# Altium footprint library Low Power Bluetooth PMOD RevA.PcbLib: 14 footprints
Each footprint in its own frame and in the unit in brackets; x right, y up, seen from the top. Pads: shape width x height; smd on the part's side, far side on the other; paste and mask are expansions set on the pad; w line width, h text height; cw(c..) or ccw(c..) is an arc to the next point about the centre after c.
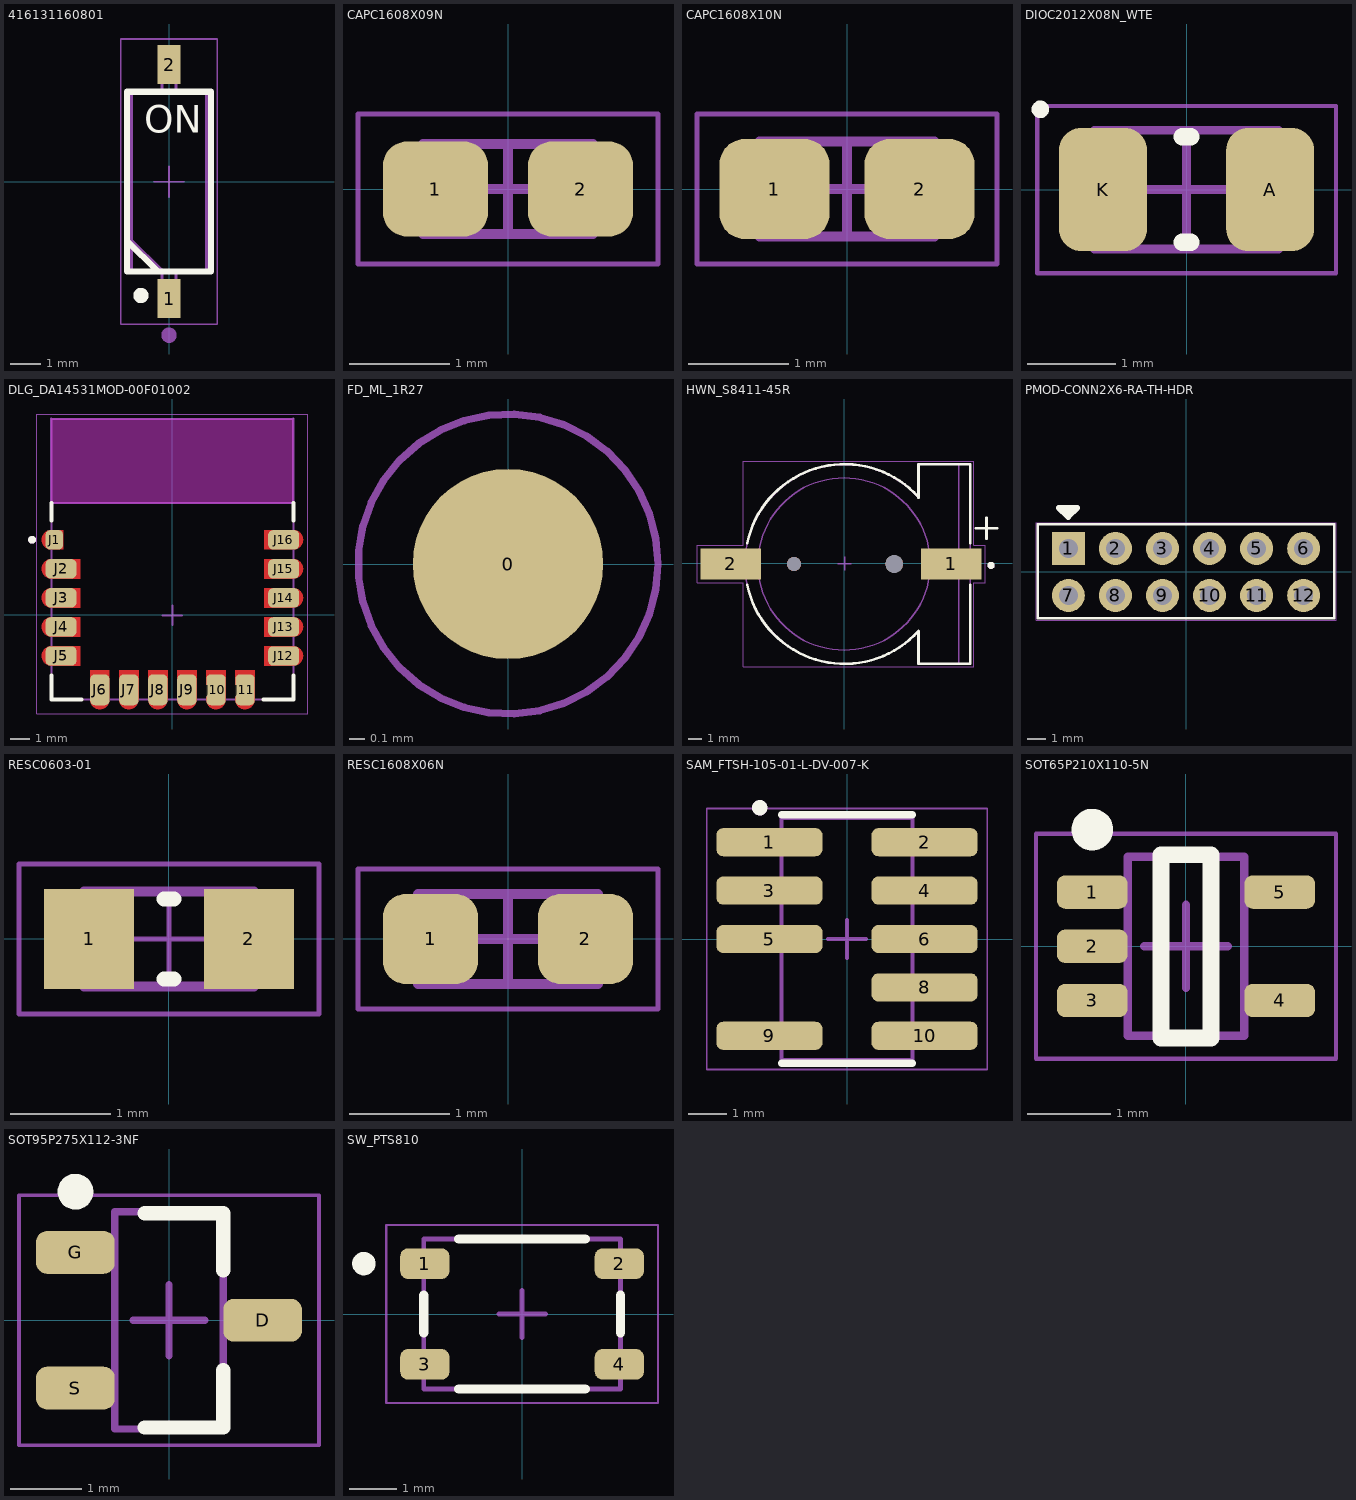
[diagram p0: the footprints below, top view; thin cyan lines are the x and y axes]

## 416131160801 [mm] "SMD Dip Switch, Small Compact, Raised Actuator, 1pin"
height 2.65
pads (2):
  rect 0.76x1.27 smd: 1(0,-3.81) 2(0,3.81)
Top Overlay:
  circle w0.25: c-0.914,-3.708 r0.125
  lines w0.2: -1.37,-1.925 -0.37,-2.925 ; -1.37,-2.925 1.37,-2.925 1.37,2.925 -1.37,2.925 -1.37,-2.925
  text "ON" at -0.8,1.6 h0.89
Top Assembly:
  circle w0.25: c0,-5 r0.125
  lines w0.05: -0.5,0 0.5,0 ; 0,-0.5 0,0.5
  lines w0.1: -1.22,-1.9 -0.22,-2.9 ; -0.225,-2.9 -0.225,-4.32 0.225,-4.32 0.225,-2.9 ; -0.225,2.9 -0.225,4.32 0.225,4.32 0.225,2.9 ; -1.22,-2.9 1.22,-2.9 1.22,2.9 -1.22,2.9 -1.22,-2.9
  text "ON" at -0.8,1.6 h0.89
Top Courtyard:
  lines w0.05: -1.57,-4.645 -1.57,4.645 1.57,4.645 1.57,-4.645 -1.57,-4.645
Top Designator:
  text ".Designator" at -7.618,-0.508 h1.52
3D body "416131160801 (rev1).stp": height 2.6, standoff 0, extent -1.22,-4.32 1.22,4.32

## CAPC1608X09N [mm] "Chip Capacitor, 2-Leads, Body 1.60x0.80mm, IPC Medium Density"
height 0.9
pads (2):
  rrect50% 1.05x0.95 smd mask+0.064: 1(-0.725,0) 2(0.725,0)
Mechanical 11:
  text ".Designator" at -0.824,-0.529 h1.02
Mechanical 13:
  lines w0.1: -0.85,-0.45 0.85,-0.45 0.85,0.45 -0.85,0.45 -0.85,-0.45
Mechanical 15:
  lines w0.05: -1.5,-0.75 1.5,-0.75 1.5,0.75 -1.5,0.75 -1.5,-0.75
  lines w0.1: -0.45,0 0.45,0 ; 0,-0.45 0,0.45
3D body: height 0.9, standoff 0, extent 0.47,-0.45 0.85,0.45
3D body: height 0.9, standoff 0, extent -0.85,-0.45 -0.47,0.45
3D body: height 0.9, standoff 0, extent -0.47,-0.45 0.47,0.45

## CAPC1608X10N [mm] "Chip Capacitor, 2-Leads, Body 1.60x0.80mm, Murata, IPC Medium Density"
height 0.95
pads (2):
  rrect50% 1.1x1 smd mask+0.064: 1(-0.725,0) 2(0.725,0)
Mechanical 11:
  text ".Designator" at 0.94,0.508 h1.02
Mechanical 13:
  lines w0.1: -0.875,-0.475 -0.875,0.475 0.875,0.475 0.875,-0.475 -0.875,-0.475
Mechanical 15:
  lines w0.05: -1.5,-0.75 -1.5,0.75 1.5,0.75 1.5,-0.75 -1.5,-0.75
  lines w0.1: -0.475,0 0.475,0 ; 0,-0.475 0,0.475
3D body "CAPC1608X10N.step": height 0.95, standoff 0, extent -0.875,-0.475 0.875,0.475

## DIOC2012X08N_WTE [mm] "Chip Diode, 2-Leads, Body 2.00x1.25mm, Wurth 150080xx75000, IPC Medium Density"
height 0.8
pads (2):
  rrect50% 1x1.4 smd mask+0.064: A(0.95,0) K(-0.95,0)
Top Overlay:
  circle w0.1: c-1.662,0.912 r0.05
  lines w0.2: -0.05,-0.6 0.05,-0.6 ; -0.05,0.6 0.05,0.6
Mechanical 11:
  text ".Designator" at 0.686,0.559 h1.02
Mechanical 13:
  lines w0.1: -0.95,-0.675 -0.95,0.675 ; -0.85,-0.675 -0.85,0.675 ; -1.05,-0.675 1.05,-0.675 1.05,0.675 -1.05,0.675 -1.05,-0.675
Mechanical 15:
  lines w0.05: -1.7,-0.95 1.7,-0.95 1.7,0.95 -1.7,0.95 -1.7,-0.95
  lines w0.1: -0.5,0 0.5,0 ; 0,-0.5 0,0.5
3D body "150080AS75000_SMCW-0805.stp": height 0.7, standoff 0, extent -1,-0.625 1,0.625

## DLG_DA14531MOD-00F01002 [mm] "Dialog, DA14531MOD"
height 3.05
pads (16):
  rrect50% 0.9x1 smd paste-1 mask+0: J1(-6.1,3.875)
  rrect50% 1.6x1 smd paste+0 mask+0: J2(-5.75,2.375) J3(-5.75,0.875) J4(-5.75,-0.625) J5(-5.75,-2.125)
  rrect50% 1x1.6 smd paste+0 mask+0: J6(-3.75,-3.875)
  rrect50% 1x1.6 smd paste-1 mask+0: J7(-2.25,-3.875) J8(-0.75,-3.875) J9(0.75,-3.875) J10(2.25,-3.875) J11(3.75,-3.875)
  rrect50% 1.6x1 smd paste-1 mask+0: J12(5.75,-2.125) J13(5.75,-0.625) J14(5.75,0.875) J15(5.75,2.375) J16(5.75,3.875)
Top Layer:
  region: -4.75,1.875 -6.25,1.875 -6.276,1.876 -6.302,1.878 -6.328,1.881 -6.354,1.886 -6.379,1.892 -6.405,1.899 -6.429,1.908 -6.453,1.918 -6.477,1.929 -6.5,1.942 -6.522,1.956 -6.544,1.97 -6.565,1.986 -6.585,2.003 -6.604,2.021 -6.622,2.04 -6.639,2.06 -6.655,2.081 -6.669,2.103 -6.683,2.125 -6.696,2.148 -6.707,2.172 -6.717,2.196 -6.726,2.22 -6.733,2.246 -6.739,2.271 -6.744,2.297 -6.747,2.323 -6.749,2.349 -6.75,2.375 -6.749,2.401 -6.747,2.427 -6.744,2.453 -6.739,2.479 -6.733,2.504 -6.726,2.53 -6.717,2.554 -6.707,2.578 -6.696,2.602 -6.683,2.625 -6.669,2.647 -6.655,2.669 -6.639,2.69 -6.622,2.71 -6.604,2.729 -6.585,2.747 -6.565,2.764 -6.544,2.78 -6.522,2.794 -6.5,2.808 -6.477,2.821 -6.453,2.832 -6.429,2.842 -6.405,2.851 -6.379,2.858 -6.354,2.864 -6.328,2.869 -6.302,2.872 -6.276,2.874 -6.25,2.875 -4.75,2.875
  region: 6.276,4.374 6.302,4.372 6.328,4.369 6.354,4.364 6.379,4.358 6.405,4.351 6.429,4.342 6.453,4.332 6.477,4.321 6.5,4.308 6.522,4.294 6.544,4.28 6.565,4.264 6.585,4.247 6.604,4.229 6.622,4.21 6.639,4.19 6.655,4.169 6.669,4.147 6.683,4.125 6.696,4.102 6.707,4.078 6.717,4.054 6.726,4.03 6.733,4.004 6.739,3.979 6.744,3.953 6.747,3.927 6.749,3.901 6.75,3.875 6.749,3.849 6.747,3.823 6.744,3.797 6.739,3.771 6.733,3.746 6.726,3.72 6.717,3.696 6.707,3.672 6.696,3.648 6.683,3.625 6.669,3.603 6.655,3.581 6.639,3.56 6.622,3.54 6.604,3.521 6.585,3.503 6.565,3.486 6.544,3.47 6.522,3.456 6.5,3.442 6.477,3.429 6.453,3.418 6.429,3.408 6.405,3.399 6.379,3.392 6.354,3.386 6.328,3.381 6.302,3.378 6.276,3.376 6.25,3.375 4.75,3.375 4.75,4.375 6.25,4.375
  region: 6.276,1.374 6.302,1.372 6.328,1.369 6.354,1.364 6.379,1.358 6.405,1.351 6.429,1.342 6.453,1.332 6.477,1.321 6.5,1.308 6.522,1.294 6.544,1.28 6.565,1.264 6.585,1.247 6.604,1.229 6.622,1.21 6.639,1.19 6.655,1.169 6.669,1.147 6.683,1.125 6.696,1.102 6.707,1.078 6.717,1.054 6.726,1.03 6.733,1.004 6.739,0.979 6.744,0.953 6.747,0.927 6.749,0.901 6.75,0.875 6.749,0.849 6.747,0.823 6.744,0.797 6.739,0.771 6.733,0.746 6.726,0.72 6.717,0.696 6.707,0.672 6.696,0.648 6.683,0.625 6.669,0.603 6.655,0.581 6.639,0.56 6.622,0.54 6.604,0.521 6.585,0.503 6.565,0.486 6.544,0.47 6.522,0.456 6.5,0.442 6.477,0.429 6.453,0.418 6.429,0.408 6.405,0.399 6.379,0.392 6.354,0.386 6.328,0.381 6.302,0.378 6.276,0.376 6.25,0.375 4.75,0.375 4.75,1.375 6.25,1.375
  region: 6.276,-0.126 6.302,-0.128 6.328,-0.131 6.354,-0.136 6.379,-0.142 6.405,-0.149 6.429,-0.158 6.453,-0.168 6.477,-0.179 6.5,-0.192 6.522,-0.206 6.544,-0.22 6.565,-0.236 6.585,-0.253 6.604,-0.271 6.622,-0.29 6.639,-0.31 6.655,-0.331 6.669,-0.353 6.683,-0.375 6.696,-0.398 6.707,-0.422 6.717,-0.446 6.726,-0.47 6.733,-0.496 6.739,-0.521 6.744,-0.547 6.747,-0.573 6.749,-0.599 6.75,-0.625 6.749,-0.651 6.747,-0.677 6.744,-0.703 6.739,-0.729 6.733,-0.754 6.726,-0.78 6.717,-0.804 6.707,-0.828 6.696,-0.852 6.683,-0.875 6.669,-0.897 6.655,-0.919 6.639,-0.94 6.622,-0.96 6.604,-0.979 6.585,-0.997 6.565,-1.014 6.544,-1.03 6.522,-1.044 6.5,-1.058 6.477,-1.071 6.453,-1.082 6.429,-1.092 6.405,-1.101 6.379,-1.108 6.354,-1.114 6.328,-1.119 6.302,-1.122 6.276,-1.124 6.25,-1.125 4.75,-1.125 4.75,-0.125 6.25,-0.125
  region: 6.276,-1.626 6.302,-1.628 6.328,-1.631 6.354,-1.636 6.379,-1.642 6.405,-1.649 6.429,-1.658 6.453,-1.668 6.477,-1.679 6.5,-1.692 6.522,-1.706 6.544,-1.72 6.565,-1.736 6.585,-1.753 6.604,-1.771 6.622,-1.79 6.639,-1.81 6.655,-1.831 6.669,-1.853 6.683,-1.875 6.696,-1.898 6.707,-1.922 6.717,-1.946 6.726,-1.97 6.733,-1.996 6.739,-2.021 6.744,-2.047 6.747,-2.073 6.749,-2.099 6.75,-2.125 6.749,-2.151 6.747,-2.177 6.744,-2.203 6.739,-2.229 6.733,-2.254 6.726,-2.28 6.717,-2.304 6.707,-2.328 6.696,-2.352 6.683,-2.375 6.669,-2.397 6.655,-2.419 6.639,-2.44 6.622,-2.46 6.604,-2.479 6.585,-2.497 6.565,-2.514 6.544,-2.53 6.522,-2.544 6.5,-2.558 6.477,-2.571 6.453,-2.582 6.429,-2.592 6.405,-2.601 6.379,-2.608 6.354,-2.614 6.328,-2.619 6.302,-2.622 6.276,-2.624 6.25,-2.625 4.75,-2.625 4.75,-1.625 6.25,-1.625
  region: 4.25,-4.375 4.249,-4.401 4.247,-4.427 4.244,-4.453 4.239,-4.479 4.233,-4.504 4.226,-4.53 4.217,-4.554 4.207,-4.578 4.196,-4.602 4.183,-4.625 4.169,-4.647 4.155,-4.669 4.139,-4.69 4.122,-4.71 4.104,-4.729 4.085,-4.747 4.065,-4.764 4.044,-4.78 4.022,-4.794 4,-4.808 3.977,-4.821 3.953,-4.832 3.929,-4.842 3.905,-4.851 3.879,-4.858 3.854,-4.864 3.828,-4.869 3.802,-4.872 3.776,-4.874 3.75,-4.875 3.724,-4.874 3.698,-4.872 3.672,-4.869 3.646,-4.864 3.621,-4.858 3.595,-4.851 3.571,-4.842 3.547,-4.832 3.523,-4.821 3.5,-4.808 3.478,-4.794 3.456,-4.78 3.435,-4.764 3.415,-4.747 3.396,-4.729 3.378,-4.71 3.361,-4.69 3.345,-4.669 3.331,-4.647 3.317,-4.625 3.304,-4.602 3.293,-4.578 3.283,-4.554 3.274,-4.53 3.267,-4.504 3.261,-4.479 3.256,-4.453 3.253,-4.427 3.251,-4.401 3.25,-4.375 3.25,-2.875 4.25,-2.875
  region: 2.75,-4.375 2.749,-4.401 2.747,-4.427 2.744,-4.453 2.739,-4.479 2.733,-4.504 2.726,-4.53 2.717,-4.554 2.707,-4.578 2.696,-4.602 2.683,-4.625 2.669,-4.647 2.655,-4.669 2.639,-4.69 2.622,-4.71 2.604,-4.729 2.585,-4.747 2.565,-4.764 2.544,-4.78 2.522,-4.794 2.5,-4.808 2.477,-4.821 2.453,-4.832 2.429,-4.842 2.405,-4.851 2.379,-4.858 2.354,-4.864 2.328,-4.869 2.302,-4.872 2.276,-4.874 2.25,-4.875 2.224,-4.874 2.198,-4.872 2.172,-4.869 2.146,-4.864 2.121,-4.858 2.095,-4.851 2.071,-4.842 2.047,-4.832 2.023,-4.821 2,-4.808 1.978,-4.794 1.956,-4.78 1.935,-4.764 1.915,-4.747 1.896,-4.729 1.878,-4.71 1.861,-4.69 1.845,-4.669 1.831,-4.647 1.817,-4.625 1.804,-4.602 1.793,-4.578 1.783,-4.554 1.774,-4.53 1.767,-4.504 1.761,-4.479 1.756,-4.453 1.753,-4.427 1.751,-4.401 1.75,-4.375 1.75,-2.875 2.75,-2.875
  region: 1.25,-4.375 1.249,-4.401 1.247,-4.427 1.244,-4.453 1.239,-4.479 1.233,-4.504 1.226,-4.53 1.217,-4.554 1.207,-4.578 1.196,-4.602 1.183,-4.625 1.169,-4.647 1.155,-4.669 1.139,-4.69 1.122,-4.71 1.104,-4.729 1.085,-4.747 1.065,-4.764 1.044,-4.78 1.022,-4.794 1,-4.808 0.977,-4.821 0.953,-4.832 0.929,-4.842 0.905,-4.851 0.879,-4.858 0.854,-4.864 0.828,-4.869 0.802,-4.872 0.776,-4.874 0.75,-4.875 0.724,-4.874 0.698,-4.872 0.672,-4.869 0.646,-4.864 0.621,-4.858 0.595,-4.851 0.571,-4.842 0.547,-4.832 0.523,-4.821 0.5,-4.808 0.478,-4.794 0.456,-4.78 0.435,-4.764 0.415,-4.747 0.396,-4.729 0.378,-4.71 0.361,-4.69 0.345,-4.669 0.331,-4.647 0.317,-4.625 0.304,-4.602 0.293,-4.578 0.283,-4.554 0.274,-4.53 0.267,-4.504 0.261,-4.479 0.256,-4.453 0.253,-4.427 0.251,-4.401 0.25,-4.375 0.25,-2.875 1.25,-2.875
  region: -0.25,-4.375 -0.251,-4.401 -0.253,-4.427 -0.256,-4.453 -0.261,-4.479 -0.267,-4.504 -0.274,-4.53 -0.283,-4.554 -0.293,-4.578 -0.304,-4.602 -0.317,-4.625 -0.331,-4.647 -0.345,-4.669 -0.361,-4.69 -0.378,-4.71 -0.396,-4.729 -0.415,-4.747 -0.435,-4.764 -0.456,-4.78 -0.478,-4.794 -0.5,-4.808 -0.523,-4.821 -0.547,-4.832 -0.571,-4.842 -0.595,-4.851 -0.621,-4.858 -0.646,-4.864 -0.672,-4.869 -0.698,-4.872 -0.724,-4.874 -0.75,-4.875 -0.776,-4.874 -0.802,-4.872 -0.828,-4.869 -0.854,-4.864 -0.879,-4.858 -0.905,-4.851 -0.929,-4.842 -0.953,-4.832 -0.977,-4.821 -1,-4.808 -1.022,-4.794 -1.044,-4.78 -1.065,-4.764 -1.085,-4.747 -1.104,-4.729 -1.122,-4.71 -1.139,-4.69 -1.155,-4.669 -1.169,-4.647 -1.183,-4.625 -1.196,-4.602 -1.207,-4.578 -1.217,-4.554 -1.226,-4.53 -1.233,-4.504 -1.239,-4.479 -1.244,-4.453 -1.247,-4.427 -1.249,-4.401 -1.25,-4.375 -1.25,-2.875 -0.25,-2.875
  region: -1.75,-4.375 -1.751,-4.401 -1.753,-4.427 -1.756,-4.453 -1.761,-4.479 -1.767,-4.504 -1.774,-4.53 -1.783,-4.554 -1.793,-4.578 -1.804,-4.602 -1.817,-4.625 -1.831,-4.647 -1.845,-4.669 -1.861,-4.69 -1.878,-4.71 -1.896,-4.729 -1.915,-4.747 -1.935,-4.764 -1.956,-4.78 -1.978,-4.794 -2,-4.808 -2.023,-4.821 -2.047,-4.832 -2.071,-4.842 -2.095,-4.851 -2.121,-4.858 -2.146,-4.864 -2.172,-4.869 -2.198,-4.872 -2.224,-4.874 -2.25,-4.875 -2.276,-4.874 -2.302,-4.872 -2.328,-4.869 -2.354,-4.864 -2.379,-4.858 -2.405,-4.851 -2.429,-4.842 -2.453,-4.832 -2.477,-4.821 -2.5,-4.808 -2.522,-4.794 -2.544,-4.78 -2.565,-4.764 -2.585,-4.747 -2.604,-4.729 -2.622,-4.71 -2.639,-4.69 -2.655,-4.669 -2.669,-4.647 -2.683,-4.625 -2.696,-4.602 -2.707,-4.578 -2.717,-4.554 -2.726,-4.53 -2.733,-4.504 -2.739,-4.479 -2.744,-4.453 -2.747,-4.427 -2.749,-4.401 -2.75,-4.375 -2.75,-2.875 -1.75,-2.875
  region: -3.25,-4.375 -3.251,-4.401 -3.253,-4.427 -3.256,-4.453 -3.261,-4.479 -3.267,-4.504 -3.274,-4.53 -3.283,-4.554 -3.293,-4.578 -3.304,-4.602 -3.317,-4.625 -3.331,-4.647 -3.345,-4.669 -3.361,-4.69 -3.378,-4.71 -3.396,-4.729 -3.415,-4.747 -3.435,-4.764 -3.456,-4.78 -3.478,-4.794 -3.5,-4.808 -3.523,-4.821 -3.547,-4.832 -3.571,-4.842 -3.595,-4.851 -3.621,-4.858 -3.646,-4.864 -3.672,-4.869 -3.698,-4.872 -3.724,-4.874 -3.75,-4.875 -3.776,-4.874 -3.802,-4.872 -3.828,-4.869 -3.854,-4.864 -3.879,-4.858 -3.905,-4.851 -3.929,-4.842 -3.953,-4.832 -3.977,-4.821 -4,-4.808 -4.022,-4.794 -4.044,-4.78 -4.065,-4.764 -4.085,-4.747 -4.104,-4.729 -4.122,-4.71 -4.139,-4.69 -4.155,-4.669 -4.169,-4.647 -4.183,-4.625 -4.196,-4.602 -4.207,-4.578 -4.217,-4.554 -4.226,-4.53 -4.233,-4.504 -4.239,-4.479 -4.244,-4.453 -4.247,-4.427 -4.249,-4.401 -4.25,-4.375 -4.25,-2.875 -3.25,-2.875
  region: -4.75,-2.625 -6.25,-2.625 -6.276,-2.624 -6.302,-2.622 -6.328,-2.619 -6.354,-2.614 -6.379,-2.608 -6.405,-2.601 -6.429,-2.592 -6.453,-2.582 -6.477,-2.571 -6.5,-2.558 -6.522,-2.544 -6.544,-2.53 -6.565,-2.514 -6.585,-2.497 -6.604,-2.479 -6.622,-2.46 -6.639,-2.44 -6.655,-2.419 -6.669,-2.397 -6.683,-2.375 -6.696,-2.352 -6.707,-2.328 -6.717,-2.304 -6.726,-2.28 -6.733,-2.254 -6.739,-2.229 -6.744,-2.203 -6.747,-2.177 -6.749,-2.151 -6.75,-2.125 -6.749,-2.099 -6.747,-2.073 -6.744,-2.047 -6.739,-2.021 -6.733,-1.996 -6.726,-1.97 -6.717,-1.946 -6.707,-1.922 -6.696,-1.898 -6.683,-1.875 -6.669,-1.853 -6.655,-1.831 -6.639,-1.81 -6.622,-1.79 -6.604,-1.771 -6.585,-1.753 -6.565,-1.736 -6.544,-1.72 -6.522,-1.706 -6.5,-1.692 -6.477,-1.679 -6.453,-1.668 -6.429,-1.658 -6.405,-1.649 -6.379,-1.642 -6.354,-1.636 -6.328,-1.631 -6.302,-1.628 -6.276,-1.626 -6.25,-1.625 -4.75,-1.625
  region: -4.75,-1.125 -6.25,-1.125 -6.276,-1.124 -6.302,-1.122 -6.328,-1.119 -6.354,-1.114 -6.379,-1.108 -6.405,-1.101 -6.429,-1.092 -6.453,-1.082 -6.477,-1.071 -6.5,-1.058 -6.522,-1.044 -6.544,-1.03 -6.565,-1.014 -6.585,-0.997 -6.604,-0.979 -6.622,-0.96 -6.639,-0.94 -6.655,-0.919 -6.669,-0.897 -6.683,-0.875 -6.696,-0.852 -6.707,-0.828 -6.717,-0.804 -6.726,-0.78 -6.733,-0.754 -6.739,-0.729 -6.744,-0.703 -6.747,-0.677 -6.749,-0.651 -6.75,-0.625 -6.749,-0.599 -6.747,-0.573 -6.744,-0.547 -6.739,-0.521 -6.733,-0.496 -6.726,-0.47 -6.717,-0.446 -6.707,-0.422 -6.696,-0.398 -6.683,-0.375 -6.669,-0.353 -6.655,-0.331 -6.639,-0.31 -6.622,-0.29 -6.604,-0.271 -6.585,-0.253 -6.565,-0.236 -6.544,-0.22 -6.522,-0.206 -6.5,-0.192 -6.477,-0.179 -6.453,-0.168 -6.429,-0.158 -6.405,-0.149 -6.379,-0.142 -6.354,-0.136 -6.328,-0.131 -6.302,-0.128 -6.276,-0.126 -6.25,-0.125 -4.75,-0.125
  region: -4.75,0.375 -6.25,0.375 -6.276,0.376 -6.302,0.378 -6.328,0.381 -6.354,0.386 -6.379,0.392 -6.405,0.399 -6.429,0.408 -6.453,0.418 -6.477,0.429 -6.5,0.442 -6.522,0.456 -6.544,0.47 -6.565,0.486 -6.585,0.503 -6.604,0.521 -6.622,0.54 -6.639,0.56 -6.655,0.581 -6.669,0.603 -6.683,0.625 -6.696,0.648 -6.707,0.672 -6.717,0.696 -6.726,0.72 -6.733,0.746 -6.739,0.771 -6.744,0.797 -6.747,0.823 -6.749,0.849 -6.75,0.875 -6.749,0.901 -6.747,0.927 -6.744,0.953 -6.739,0.979 -6.733,1.004 -6.726,1.03 -6.717,1.054 -6.707,1.078 -6.696,1.102 -6.683,1.125 -6.669,1.147 -6.655,1.169 -6.639,1.19 -6.622,1.21 -6.604,1.229 -6.585,1.247 -6.565,1.264 -6.544,1.28 -6.522,1.294 -6.5,1.308 -6.477,1.321 -6.453,1.332 -6.429,1.342 -6.405,1.351 -6.379,1.358 -6.354,1.364 -6.328,1.369 -6.302,1.372 -6.276,1.374 -6.25,1.375 -4.75,1.375
  region: -4.75,1.875 -6.25,1.875 -6.276,1.876 -6.302,1.878 -6.328,1.881 -6.354,1.886 -6.379,1.892 -6.405,1.899 -6.429,1.908 -6.453,1.918 -6.477,1.929 -6.5,1.942 -6.522,1.956 -6.544,1.97 -6.565,1.986 -6.585,2.003 -6.604,2.021 -6.622,2.04 -6.639,2.06 -6.655,2.081 -6.669,2.103 -6.683,2.125 -6.696,2.148 -6.707,2.172 -6.717,2.196 -6.726,2.22 -6.733,2.246 -6.739,2.271 -6.744,2.297 -6.747,2.323 -6.749,2.349 -6.75,2.375 -6.749,2.401 -6.747,2.427 -6.744,2.453 -6.739,2.479 -6.733,2.504 -6.726,2.53 -6.717,2.554 -6.707,2.578 -6.696,2.602 -6.683,2.625 -6.669,2.647 -6.655,2.669 -6.639,2.69 -6.622,2.71 -6.604,2.729 -6.585,2.747 -6.565,2.764 -6.544,2.78 -6.522,2.794 -6.5,2.808 -6.477,2.821 -6.453,2.832 -6.429,2.842 -6.405,2.851 -6.379,2.858 -6.354,2.864 -6.328,2.869 -6.302,2.872 -6.276,2.874 -6.25,2.875 -4.75,2.875
  region: -5.65,3.375 -6.25,3.375 -6.276,3.376 -6.302,3.378 -6.328,3.381 -6.354,3.386 -6.379,3.392 -6.405,3.399 -6.429,3.408 -6.453,3.418 -6.477,3.429 -6.5,3.442 -6.522,3.456 -6.544,3.47 -6.565,3.486 -6.585,3.503 -6.604,3.521 -6.622,3.54 -6.639,3.56 -6.655,3.581 -6.669,3.603 -6.683,3.625 -6.696,3.648 -6.707,3.672 -6.717,3.696 -6.726,3.72 -6.733,3.746 -6.739,3.771 -6.744,3.797 -6.747,3.823 -6.749,3.849 -6.75,3.875 -6.749,3.901 -6.747,3.927 -6.744,3.953 -6.739,3.979 -6.733,4.004 -6.726,4.03 -6.717,4.054 -6.707,4.078 -6.696,4.102 -6.683,4.125 -6.669,4.147 -6.655,4.169 -6.639,4.19 -6.622,4.21 -6.604,4.229 -6.585,4.247 -6.565,4.264 -6.544,4.28 -6.522,4.294 -6.5,4.308 -6.477,4.321 -6.453,4.332 -6.429,4.342 -6.405,4.351 -6.379,4.358 -6.354,4.364 -6.328,4.369 -6.302,4.372 -6.276,4.374 -6.25,4.375 -5.65,4.375
  region: 6.276,2.874 6.302,2.872 6.328,2.869 6.354,2.864 6.379,2.858 6.405,2.851 6.429,2.842 6.453,2.832 6.477,2.821 6.5,2.808 6.522,2.794 6.544,2.78 6.565,2.764 6.585,2.747 6.604,2.729 6.622,2.71 6.639,2.69 6.655,2.669 6.669,2.647 6.683,2.625 6.696,2.602 6.707,2.578 6.717,2.554 6.726,2.53 6.733,2.504 6.739,2.479 6.744,2.453 6.747,2.427 6.749,2.401 6.75,2.375 6.749,2.349 6.747,2.323 6.744,2.297 6.739,2.271 6.733,2.246 6.726,2.22 6.717,2.196 6.707,2.172 6.696,2.148 6.683,2.125 6.669,2.103 6.655,2.081 6.639,2.06 6.622,2.04 6.604,2.021 6.585,2.003 6.565,1.986 6.544,1.97 6.522,1.956 6.5,1.942 6.477,1.929 6.453,1.918 6.429,1.908 6.405,1.899 6.379,1.892 6.354,1.886 6.328,1.881 6.302,1.878 6.276,1.876 6.25,1.875 4.75,1.875 4.75,2.875 6.25,2.875
Top Overlay:
  circle w0.2: c-7.25,3.875 r0.1
  lines w0.2: -6.25,-3.125 -6.25,-4.375 -4.7,-4.375 ; -6.25,4.875 -6.25,5.775 ; 4.7,-4.375 6.25,-4.375 6.25,-3.125 ; 6.25,4.875 6.25,5.775
Top Paste:
  drawing of 15 lines, arcs and shapes, not listed
Keep-Out Layer:
  region: 6.25,5.775 -6.25,5.775 -6.25,10.125 6.25,10.125
  region: 6.25,5.775 -6.25,5.775 -6.25,10.125 6.25,10.125
  region: 6.25,5.775 -6.25,5.775 -6.25,10.125 6.25,10.125
Mechanical 11:
  text ".Designator" at -0.824,-0.554 h1.02
Mechanical 13:
  circle w0.2: c-7.25,3.875 r0.1
  lines w0.1: -6.25,10.125 6.25,10.125 ; -6.25,-4.375 -6.25,5.775 6.25,5.775 6.25,-4.375 -6.25,-4.375
  lines w0.127: -6.25,5.775 -6.25,10.125 ; 6.25,5.775 6.25,10.125
Mechanical 15:
  lines w0.05: -7,-5.125 -7,10.375 7,10.375 7,-5.125 -7,-5.125
  lines w0.1: -0.5,-0.025 0.5,-0.025 ; 0,-0.525 0,0.475
3D body "DA14531MOD-56544.step": height 3.05, standoff 0, extent -6.25,-4.375 6.25,10.125

## FD_ML_1R27 [mm] "Fiducial, Multilayer, 1.27 mm, Circular"
height 1.5
pads (1):
  round 1.27 all layers, no hole mask+0.064: 0(0,0)
Mechanical 11:
  text ".Designator" at -0.824,-0.529 h1.02
Mechanical 15:
  circle w0.05: c0,0 r1

## HWN_S8411-45R [mm] "Battery Holder, 12 mm Coin Cell, CR1220, SM"
height 4.25
pads (4):
  rect 4.5x2.3 smd: 1(7.964,-0.062) 2(-8.436,-0.062)
  round 1.05 hole 1.05 unplated: ""(-3.736,-0.062)
  round 1.3 hole 1.3 unplated: ""(3.714,-0.062)
Top Overlay:
  circle w0.3: c10.908,-0.162 r0.112
  lines w0.2: -7.203,-1.624 ccw(c0.026,-0.088) 5.518,-5.033 ; -7.203,1.5 cw(c0.026,-0.037) 5.518,4.908 ; 5.514,-5.037 5.514,-7.462 9.364,-7.462 9.364,-1.612 ; 5.514,4.863 5.514,7.338 9.364,7.338 9.364,1.488 ; 9.791,2.6 11.347,2.6 ; 10.569,1.822 10.569,3.378
Mechanical 11:
  text ".Designator" at -0.942,0.446 h1.02
Mechanical 13:
  circle w0.1: c-0.011,-0.062 r6.4
  circle w0.3: c10.908,-0.162 r0.112
  lines w0.1: 5.518,-5.032 cw(c0.026,-0.087) 5.518,4.858 ; 8.489,-7.462 8.489,7.338 ; 9.364,-7.462 9.364,7.338
  lines w0.127: 5.514,-5.037 5.514,-7.462 8.489,-7.462 9.364,-7.462 ; 5.514,4.863 5.514,7.338 8.489,7.338 9.364,7.338
Mechanical 15:
  lines w0.05: -10.936,-1.462 -10.936,1.338 -7.511,1.338 -7.511,7.588 9.614,7.588 9.614,1.338 10.464,1.338 10.464,-1.462 9.614,-1.462 9.614,-7.712 -7.511,-7.712 -7.511,-1.462 -10.936,-1.462
  lines w0.1: -0.474,-0.037 0.526,-0.037 ; 0.026,-0.537 0.026,0.463
3D body "S8411-45R.step": height 4.25, standoff -0.95, extent -9.574,-7.408 9.626,7.335

## PMOD-CONN2X6-RA-TH-HDR [mil] "Right angle, Through hole PMOD header"
pads (12):
  rect 70x70 hole 40: 1(-250,50)
  round 70 hole 40: 2(-150,50) 3(-50,50) 4(50,50) 5(150,50) 6(250,50) 7(-250,-50) 8(-150,-50) 9(-50,-50) 10(50,-50) 11(150,-50) 12(250,-50)
Top Overlay:
  region: -231.1,136.26 -270.47,136.26 -250.79,116.57
  lines w5.91: -314.96,-98.43 -314.96,101.57 314.96,101.57 314.96,-98.43 -314.96,-98.43
  lines w11.81: -270.47,136.26 -231.1,136.26 -250.79,116.57 -270.47,136.26
Mechanical 15:
  lines w1.97: -318.9,-102.36 -318.9,104.33 318.9,104.33 318.9,-102.36 -318.9,-102.36
3D body "User Library-68021-x12.STEP": height 189.49, standoff -121.01, extent -300,-442.5 300,60

## RESC0603-01 [mm]
pads (2):
  rect 0.9x1 smd: 1(-0.8,0) 2(0.8,0)
Top Overlay:
  lines w0.15: -0.05,-0.4 0.05,-0.4 ; -0.05,0.4 0.05,0.4
Mechanical 13:
  lines w0.1: -0.85,-0.475 0.85,-0.475 0.85,0.475 -0.85,0.475 -0.85,-0.475
Mechanical 15:
  lines w0.05: -0.475,0 0.475,0 ; 0,-0.475 0,0.475 ; -1.5,-0.75 1.5,-0.75 1.5,0.75 -1.5,0.75 -1.5,-0.75
3D body: height 0.6, standoff 0, extent -0.849,-0.474 -0.58,0.475
3D body: height 0.6, standoff 0, extent -0.58,-0.474 0.581,0.475
3D body: height 0.6, standoff 0, extent 0.581,-0.474 0.85,0.475

## RESC1608X06N [mm] "Chip Resistor, 2-Leads, Body 1.60x0.80mm, IPC Medium Density"
height 0.55
pads (2):
  rrect50% 0.95x0.9 smd mask+0.064: 1(-0.775,0) 2(0.775,0)
Mechanical 11:
  text ".Designator" at -0.825,-0.525 h1.02
Mechanical 13:
  lines w0.1: -0.9,-0.45 0.9,-0.45 0.9,0.45 -0.9,0.45 -0.9,-0.45
Mechanical 15:
  lines w0.05: -1.5,-0.7 1.5,-0.7 1.5,0.7 -1.5,0.7 -1.5,-0.7
  lines w0.1: -0.45,0 0.45,0 ; 0,-0.45 0,0.45
3D body "RESC1608X06N.step": height 0.55, standoff 0, extent -0.9,-0.45 0.9,0.45

## SAM_FTSH-105-01-L-DV-007-K [mm] "2X5 Header, Vertical, 1.27mm Pitch, Samtec, Pin 7 missing"
height 6.12
pads (9):
  rrect50% 2.79x0.74 smd mask+0.064: 1(-2.035,2.54) 2(2.035,2.54) 3(-2.035,1.27) 4(2.035,1.27) 5(-2.035,0) 6(2.035,0) 8(2.035,-1.27) 9(-2.035,-2.54) 10(2.035,-2.54)
Top Overlay:
  circle w0.2: c-2.289,3.444 r0.1
  lines w0.2: -1.715,-3.26 1.715,-3.26 ; -1.715,3.26 1.715,3.26
Mechanical 11:
  text ".Designator" at -0.833,-0.548 h1.02
Mechanical 13:
  circle w0.2: c-2.289,3.444 r0.1
  lines w0.1: -1.715,-3.175 1.715,-3.175 ; -1.715,-3.175 -1.715,3.175 ; -1.715,-3.175 1.715,-3.175 ; -1.715,3.175 1.715,3.175 ; -1.715,3.175 1.715,3.175 ; 1.715,-3.175 1.715,3.175 ; 1.715,-3.175 1.715,3.175
Mechanical 15:
  lines w0.05: -3.68,-3.425 -3.68,3.425 3.68,3.425 3.68,-3.425 -3.68,-3.425
  lines w0.1: -0.5,0 0.5,0 ; 0,-0.5 0,0.5
3D body "FTSH-105-01-L-DV-007-K.stp": height 6.13, standoff 0.01, extent -2.921,-3.175 2.921,3.175

## SOT65P210X110-5N [mm] "SC-70-5, 5-Leads, Body 2.00x2.10mm, Pitch 0.65mm, IPC Medium Density"
height 1.1
pads (5):
  rrect50% 0.85x0.4 smd mask+0.064: 1(-1.125,0.65) 2(-1.125,0) 3(-1.125,-0.65) 4(1.125,-0.65) 5(1.125,0.65)
Top Overlay:
  circle w0.25: c-1.125,1.4 r0.125
  lines w0.2: -0.3,-1.1 -0.3,1.1 0.3,1.1 0.3,-1.1 -0.3,-1.1
Mechanical 11:
  text ".Designator" at -0.75,-0.5 h1.02
Mechanical 13:
  lines w0.1: -0.7,-1.075 0.7,-1.075 0.7,1.075 -0.7,1.075 -0.7,-1.075
Mechanical 15:
  lines w0.05: -1.8,-1.35 1.8,-1.35 1.8,1.35 -1.8,1.35 -1.8,-1.35
  lines w0.1: -0.5,0 0.5,0 ; 0,-0.5 0,0.5
3D body "SOT65P210X110-5N.step": height 1.1, standoff 0, extent -1.2,-1.075 1.2,1.075

## SOT95P275X112-3NF [mm] "SOT23, 3-Leads, Body 2.92x2.75mm, Pitch 0.95mm, MOSFET, IPC Medium Density"
height 1.12
pads (3):
  rrect50% 1.1x0.6 smd mask+0.064: D(1.31,0) G(-1.31,0.95) S(-1.31,-0.95)
Top Overlay:
  circle w0.25: c-1.31,1.8 r0.125
  lines w0.2: -0.34,-1.5 0.76,-1.5 0.76,-0.7 ; -0.34,1.5 0.76,1.5 0.76,0.7
Mechanical 11:
  text ".Designator" at -0.831,-0.54 h1.02
Mechanical 13:
  lines w0.1: -0.76,-1.52 0.76,-1.52 0.76,1.52 -0.76,1.52 -0.76,-1.52
Mechanical 15:
  lines w0.05: -2.1,-1.75 2.1,-1.75 2.1,1.75 -2.1,1.75 -2.1,-1.75
  lines w0.1: -0.5,0 0.5,0 ; 0,-0.5 0,0.5
3D body "SOT95P275X112-3N.step": height 1.12, standoff 0, extent -1.5,-1.52 1.5,1.52

## SW_PTS810 [mm] "C&K Compnents, Momentary Tactile Switch,PTS810 Series"
height 2.5
pads (4):
  rrect50% 1.05x0.65 smd: 1(-2.075,1.075) 2(2.075,1.075) 3(-2.075,-1.075) 4(2.075,-1.075)
Top Overlay:
  circle w0.25: c-3.375,1.075 r0.125
  lines w0.2: -2.1,-0.4 -2.1,0.4 ; -1.35,-1.6 1.35,-1.6 ; -1.35,1.6 1.35,1.6 ; 2.1,-0.4 2.1,0.4
Mechanical 11:
  text ".Designator" at -0.831,-0.54 h1.02
Mechanical 13:
  lines w0.1: -2.1,-1.6 2.1,-1.6 2.1,1.6 -2.1,1.6 -2.1,-1.6
Mechanical 15:
  lines w0.05: -2.9,-1.9 2.9,-1.9 2.9,1.9 -2.9,1.9 -2.9,-1.9
  lines w0.1: -0.5,0 0.5,0 ; 0,-0.5 0,0.5
3D body "PTS810SJ250SMTR.stp": height 2.5, standoff 0, extent -2.287,-1.6 2.288,1.6